# Altium footprint library Generic PMD.PcbLib: 85 footprints (part 2 of 6)
Each footprint in its own frame and in the unit in brackets; x right, y up, seen from the top. Pads: shape width x height; smd on the part's side, far side on the other; paste and mask are expansions set on the pad; w line width, h text height; cw(c..) or ccw(c..) is an arc to the next point about the centre after c.
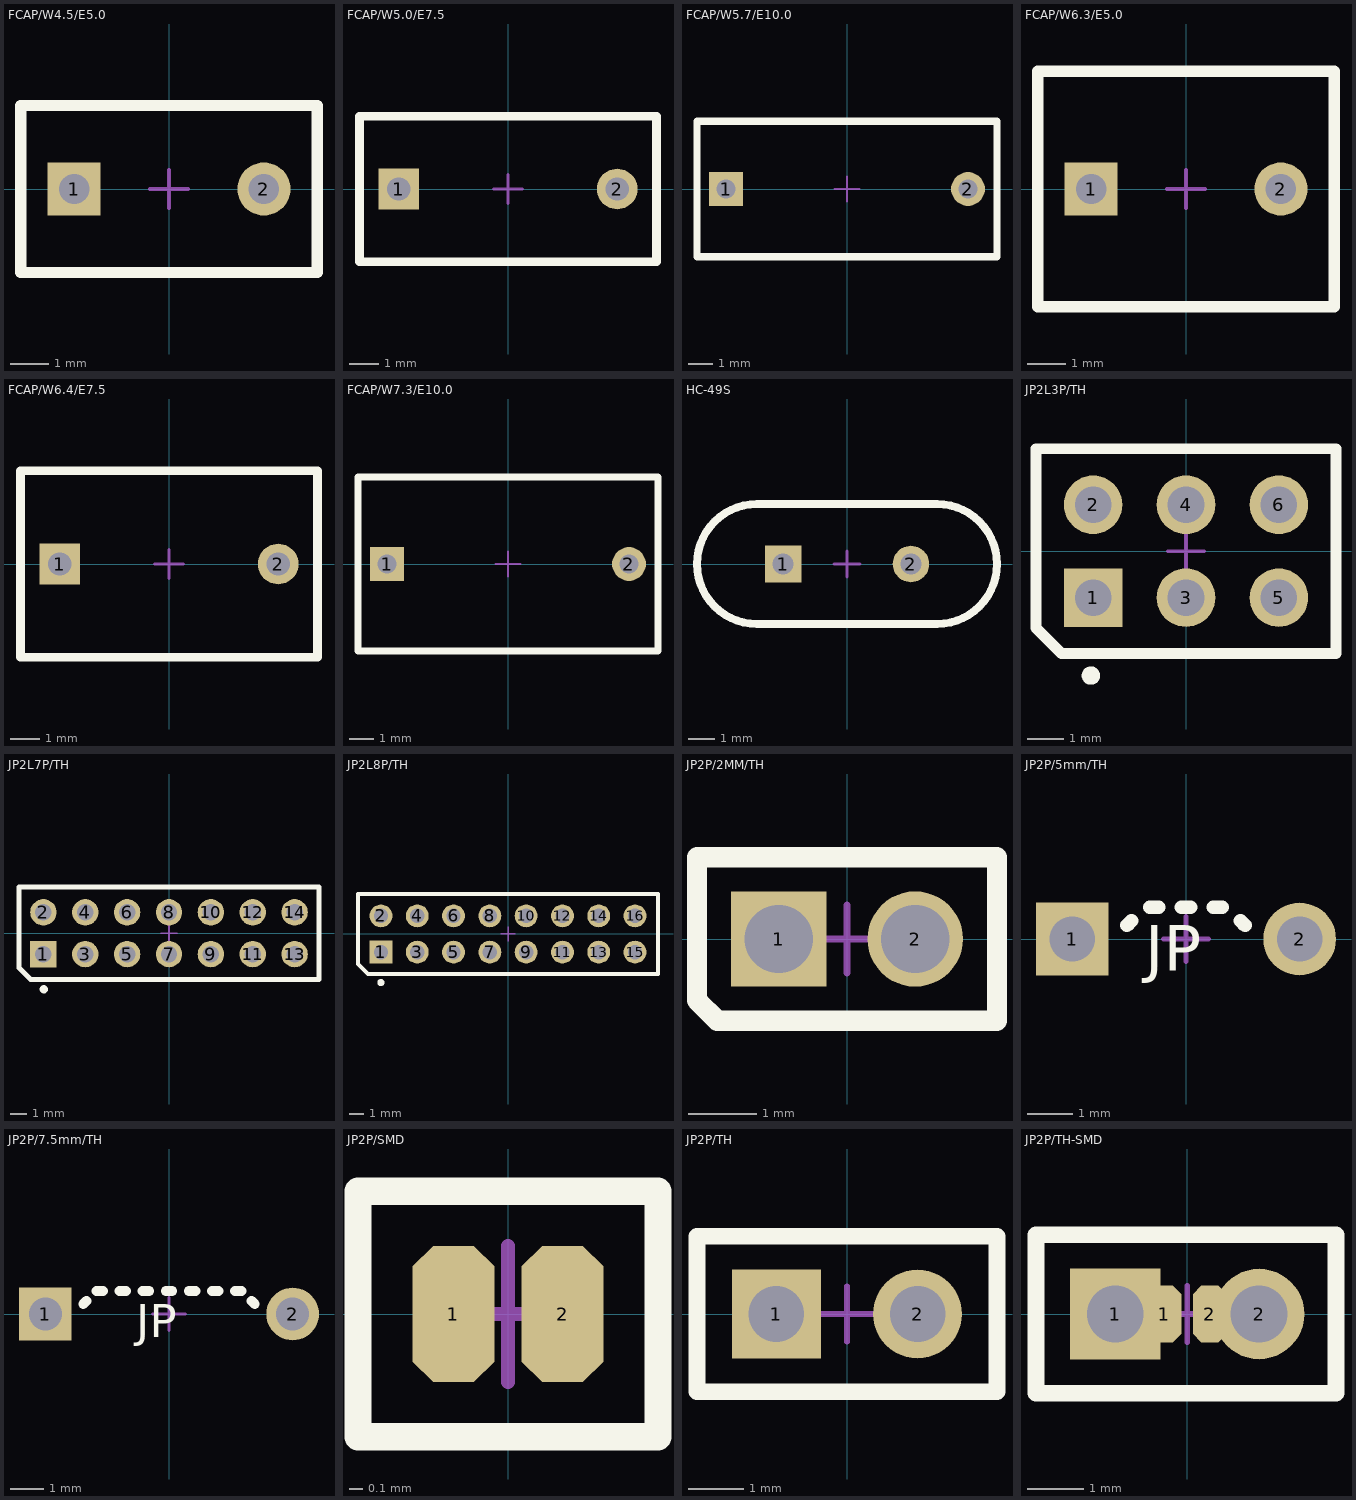
[diagram p1: the footprints below, top view; thin cyan lines are the x and y axes]

## FCAP/W4.5/E5.0 [mm] "Film Capacitor; Body 7.9x4.5x7.4mm; Pitch 5.0mm;"
height 7.4
pads (2):
  rect 1.4x1.4 hole 0.8: 1(-2.5,0)
  round 1.4 hole 0.8: 2(2.5,0)
Top Overlay:
  lines w0.3: -3.9,-2.2 -3.9,2.2 3.9,2.2 3.9,-2.2 -3.9,-2.2
Package:
  lines w0.1: -3.95,-2.25 3.95,-2.25 3.95,2.25 -3.95,2.25 -3.95,-2.25
Courtyard:
  lines w0.1: -0.5,0 0.5,0 ; 0,-0.5 0,0.5
3D body: height 7.4, standoff 1, extent -3.95,-2.25 3.95,2.25

## FCAP/W5.0/E7.5 [mm] "Film Capacitor; Body 10.3x5.0x9.7mm; Pitch 7.5mm;"
height 9.7
pads (2):
  rect 1.4x1.4 hole 0.8: 1(-3.75,0)
  round 1.4 hole 0.8: 2(3.75,0)
Top Overlay:
  lines w0.3: -5.1,-2.5 5.1,-2.5 5.1,2.5 -5.1,2.5 -5.1,-2.5
Package:
  lines w0.1: -5.15,-2.5 -5.15,2.5 5.15,2.5 5.15,-2.5 -5.15,-2.5
Courtyard:
  lines w0.1: -0.5,0 0.5,0 ; 0,-0.5 0,0.5
3D body: height 9.7, standoff 1, extent -5.15,-2.5 5.15,2.5

## FCAP/W5.7/E10.0 [mm] "Film Capacitor; Body 12.3x5.7x10.9mm; Pitch 10.0mm;"
height 10.9
pads (2):
  rect 1.4x1.4 hole 0.8: 1(-5,0)
  round 1.4 hole 0.8: 2(5,0)
Top Overlay:
  lines w0.3: -6.2,-2.8 -6.2,2.8 6.2,2.8 6.2,-2.8 -6.2,-2.8
Package:
  lines w0.1: -6.15,-2.85 6.15,-2.85 6.15,2.85 -6.15,2.85 -6.15,-2.85
Courtyard:
  lines w0.1: -0.5,0 0.5,0 ; 0,-0.5 0,0.5
3D body: height 10.9, standoff 1, extent -6.15,-2.85 6.15,2.85

## FCAP/W6.3/E5.0 [mm] "Film Capacitor; Body 7.9x6.3x11.2mm; Pitch 5.0mm;"
height 11.2
pads (2):
  rect 1.4x1.4 hole 0.8: 1(-2.5,0)
  round 1.4 hole 0.8: 2(2.5,0)
Top Overlay:
  lines w0.3: -3.9,-3.1 3.9,-3.1 3.9,3.1 -3.9,3.1 -3.9,-3.1
Package:
  lines w0.1: -3.95,-3.15 -3.95,3.15 3.95,3.15 3.95,-3.15 -3.95,-3.15
Courtyard:
  lines w0.1: -0.5,0 0.5,0 ; 0,-0.5 0,0.5
3D body: height 7.4, standoff 1, extent -3.95,-3.15 3.95,3.15

## FCAP/W6.4/E7.5 [mm] "Film Capacitor; Body 10.3x6.4x11.3mm; Pitch 7.5mm;"
height 11.3
pads (2):
  rect 1.4x1.4 hole 0.8: 1(-3.75,0)
  round 1.4 hole 0.8: 2(3.75,0)
Top Overlay:
  lines w0.3: -5.1,-3.2 -5.1,3.2 5.1,3.2 5.1,-3.2 -5.1,-3.2
Package:
  lines w0.1: -5.15,-3.2 5.15,-3.2 5.15,3.2 -5.15,3.2 -5.15,-3.2
Courtyard:
  lines w0.1: -0.5,0 0.5,0 ; 0,-0.5 0,0.5
3D body: height 11.3, standoff 1, extent -5.15,-3.2 5.15,3.2

## FCAP/W7.3/E10.0 [mm] "Film Capacitor; Body 12.3x7.3x12.7mm; Pitch 10.0mm;"
height 12.7
pads (2):
  rect 1.4x1.4 hole 0.8: 1(-5,0)
  round 1.4 hole 0.8: 2(5,0)
Top Overlay:
  lines w0.3: -6.2,-3.6 6.2,-3.6 6.2,3.6 -6.2,3.6 -6.2,-3.6
Package:
  lines w0.1: -6.15,-3.65 -6.15,3.65 6.15,3.65 6.15,-3.65 -6.15,-3.65
Courtyard:
  lines w0.1: -0.5,0 0.5,0 ; 0,-0.5 0,0.5
3D body: height 12.7, standoff 1, extent -6.15,-3.65 6.15,3.65

## HC-49S [mm] "Body 11.35x4.65x3.6mm; Pitch 4.88mm"
height 3.6
pads (2):
  rect 1.4x1.4 hole 0.8: 1(-2.45,0)
  round 1.4 hole 0.8: 2(2.45,0)
Top Overlay:
  lines w0.3: -3.45,-2.3 cw(c-3.45,0) -3.45,2.3 3.45,2.3 cw(c3.45,0) 3.45,-2.3 -3.45,-2.3
Package:
  lines w0.1: -3.45,-2.3 cw(c-3.45,0) -3.45,2.3 3.45,2.3 cw(c3.45,0) 3.45,-2.3 -3.45,-2.3
Courtyard:
  lines w0.1: -0.5,0 0.5,0 ; 0,-0.5 0,0.5
3D body: height 3.6, standoff 0, extent -5.75,-2.3 5.75,2.3

## JP2L3P/TH [mm] "2Line x 3Pin Jumper TH"
pads (6):
  rect 1.6x1.6 hole 1: 1(-2.54,-1.27)
  round 1.6 hole 1: 2(-2.54,1.27) 3(0,-1.27) 4(0,1.27) 5(2.54,-1.27) 6(2.54,1.27)
Top Overlay:
  circle w0.3: c-2.6,-3.4 r0.1
  lines w0.3: -4.1,-2.1 -4.1,2.8 4.1,2.8 4.1,-2.8 -3.4,-2.8 -4.1,-2.1
Courtyard:
  lines w0.1: -0.5,0 0.5,0 ; 0,-0.5 0,0.5

## JP2L7P/TH [mm] "2Line x 7Pin Jumper TH"
pads (14):
  rect 1.6x1.6 hole 1: 1(-7.62,-1.27)
  round 1.6 hole 1: 2(-7.62,1.27) 3(-5.08,-1.27) 4(-5.08,1.27) 5(-2.54,-1.27) 6(-2.54,1.27) 7(0,-1.27) 8(0,1.27) 9(2.54,-1.27) 10(2.54,1.27) 11(5.08,-1.27) 12(5.08,1.27) 13(7.62,-1.27) 14(7.62,1.27)
Top Overlay:
  circle w0.3: c-7.6,-3.4 r0.1
  lines w0.3: -9.1,-2.1 -9.1,2.8 9.1,2.8 9.1,-2.8 -8.4,-2.8 -9.1,-2.1
Courtyard:
  lines w0.1: -0.5,0 0.5,0 ; 0,-0.5 0,0.5

## JP2L8P/TH [mm] "2Line x 8Pin Jumper TH"
pads (16):
  rect 1.6x1.6 hole 1: 1(-8.89,-1.27)
  round 1.6 hole 1: 2(-8.89,1.27) 3(-6.35,-1.27) 4(-6.35,1.27) 5(-3.81,-1.27) 6(-3.81,1.27) 7(-1.27,-1.27) 8(-1.27,1.27) 9(1.27,-1.27) 10(1.27,1.27) 11(3.81,-1.27) 12(3.81,1.27) 13(6.35,-1.27) 14(6.35,1.27) 15(8.89,-1.27) 16(8.89,1.27)
Top Overlay:
  circle w0.3: c-8.9,-3.4 r0.1
  lines w0.3: -10.5,-2.1 -10.5,2.8 10.5,2.8 10.5,-2.8 -9.8,-2.8 -10.5,-2.1
Courtyard:
  lines w0.1: -0.5,0 0.5,0 ; 0,-0.5 0,0.5

## JP2P/2MM/TH [mm] "2Pin Jumper 2mm TH"
pads (2):
  rect 1.4x1.4 hole 1 mask+0.1: 1(-1,0)
  round 1.4 hole 1 mask+0.1: 2(1,0)
Top Overlay:
  lines w0.3: -2.2,-0.9 -2.1,-1 -2,-1.1 -1.9,-1.2 2.2,-1.2 2.2,1.2 -2.2,1.2 -2.2,-0.9
Courtyard:
  lines w0.1: -0.5,0 0.5,0 ; 0,-0.5 0,0.5

## JP2P/5mm/TH [mm] "2Pin Jumper 5mm TH"
pads (2):
  rect 1.6x1.6 hole 1: 1(-2.5,0)
  round 1.6 hole 1: 2(2.5,0)
Top Overlay:
  lines w0.3: -1.3,0.3 -1.2,0.4 ; -0.8,0.7 -0.6,0.7 ; -0.1,0.7 0.1,0.7 ; 0.6,0.7 0.8,0.7 ; 1.2,0.4 1.3,0.3
  text "JP" at -0.9,-0.7 h1
Courtyard:
  lines w0.1: -0.5,0 0.5,0 ; 0,-0.5 0,0.5

## JP2P/7.5mm/TH [mm] "2Pin Jumper 7.5mm TH"
pads (2):
  rect 1.6x1.6 hole 1: 1(-3.75,0)
  round 1.6 hole 1: 2(3.75,0)
Top Overlay:
  lines w0.3: -2.6,0.3 -2.5,0.4 ; -2.2,0.7 -2,0.7 ; -1.5,0.7 -1.3,0.7 ; -0.8,0.7 -0.6,0.7 ; -0.1,0.7 0.1,0.7 ; 0.6,0.7 0.8,0.7 ; 1.3,0.7 1.5,0.7 ; 2,0.7 2.2,0.7 ; 2.5,0.4 2.6,0.3
  text "JP" at -1,-0.7 h1
Courtyard:
  lines w0.1: -0.5,0 0.5,0 ; 0,-0.5 0,0.5

## JP2P/SMD [mm] "2Pin Jumper SMD Pad"
pads (2):
  oct 0.6x1 smd mask+0: 1(-0.4,0) 2(0.4,0)
Top Overlay:
  lines w0.2: -1.1,-0.9 -1.1,0.9 1.1,0.9 1.1,-0.9 -1.1,-0.9
Top Solder:
  rectangle: -0.8,-0.6 0.8,0.6
Courtyard:
  lines w0.1: -0.5,0 0.5,0 ; 0,-0.5 0,0.5

## JP2P/TH [mm] "2Pin Jumper TH"
pads (2):
  rect 1.6x1.6 hole 1: 1(-1.27,0)
  round 1.6 hole 1: 2(1.27,0)
Top Overlay:
  lines w0.3: -2.7,-1.4 2.7,-1.4 2.7,1.4 -2.7,1.4 -2.7,-1.4
Courtyard:
  lines w0.1: -0.5,0 0.5,0 ; 0,-0.5 0,0.5

## JP2P/TH-SMD [mm] "2Pin Jumper TH with SMD Pad"
pads (4):
  rect 1.6x1.6 hole 1: 1(-1.27,0)
  oct 0.6x1 smd mask+0: 1(-0.4,0) 2(0.4,0)
  round 1.6 hole 1: 2(1.27,0)
Top Overlay:
  lines w0.3: -2.67,-1.4 2.63,-1.4 2.63,1.4 -2.67,1.4 -2.67,-1.4
Top Solder:
  rectangle: -0.6,-0.6 0.6,0.6
Courtyard:
  lines w0.1: -0.5,0 0.5,0 ; 0,-0.5 0,0.5